# EAGLE library part LT31 (library divers)
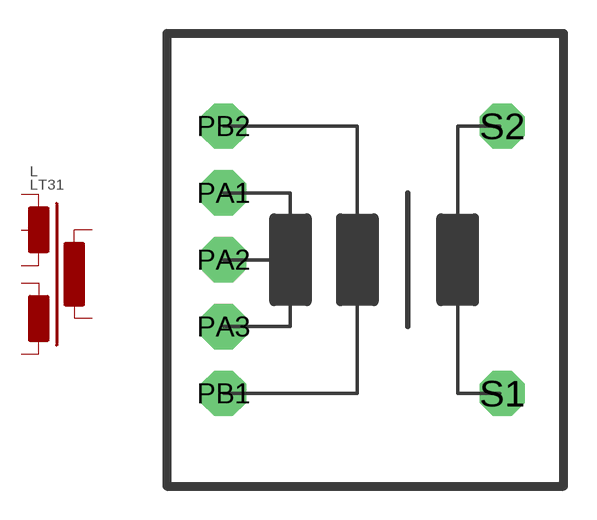
[diagram p25: symbol with the pads of LT31; footprint LT31]

Designator prefix L

## LT31  [LT31]
PA1  PA1  pas
PA2  PA2  pas
PA3  PA3  pas
PB1  PB1  pas
PB2  PB2  pas
S1  S1  pas
S2  S2  pas

## Footprint LT31 (pad centres in mm)
drill 0.991 pad 2.032 octagon: PA1 -6.35,3.35; PA2 -6.35,0.35; PA3 -6.35,-2.65; PB1 -6.35,-5.65; PB2 -6.35,6.35; S1 6.15,-5.65; S2 6.15,6.35